# Altium footprint library El-d16-h26-F7.62.PcbLib: 1 footprints
Each footprint in its own frame and in the unit in brackets; x right, y up, seen from the top. Pads: shape width x height; smd on the part's side, far side on the other; paste and mask are expansions set on the pad; w line width, h text height; cw(c..) or ccw(c..) is an arc to the next point about the centre after c.
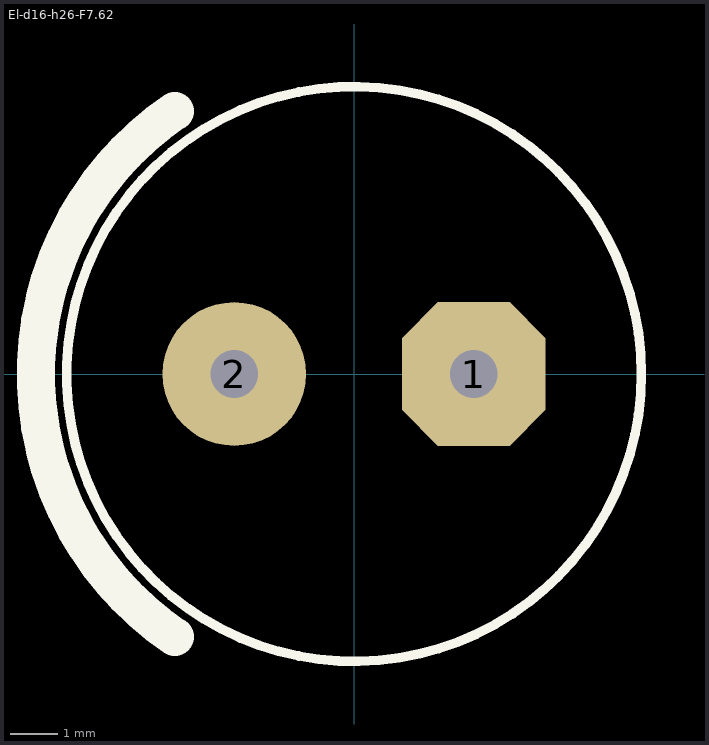
[diagram p0: the footprint, top view; thin cyan lines are the x and y axes]

## El-d16-h26-F7.62 [mm]
pads (2):
  oct 3x3 hole 1: 1(2.5,0)
  round 3 hole 1: 2(-2.5,0)
Top Overlay:
  circle w0.2: c0,0 r6
  lines w0.8: -3.742,-5.488 cw(c0,0) -3.742,5.488